# EAGLE library part ASE4204 (library SHC)
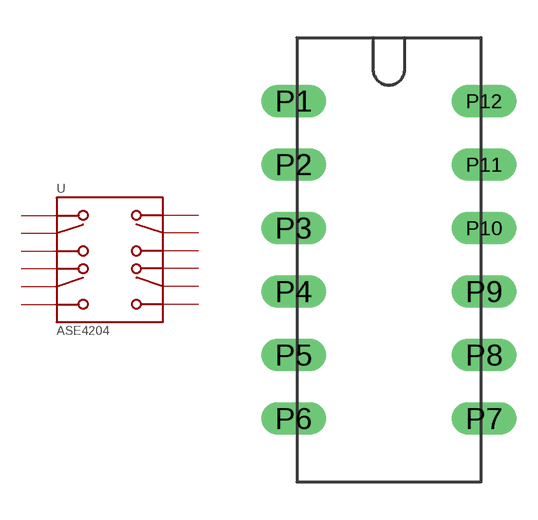
[diagram p41: symbol with the pads of DIP-12; footprint DIP-12]

Designator prefix -

## ASE4204  [DIP-12]
P1  P$1
P2  P$2
P3  P$3
P4  P$4
P5  P$5
P6  P$6
P7  P$7
P8  P$8
P9  P$9
P10  P$10
P11  P$11
P12  P$12

## Footprint DIP-12 (pad centres in mm)
drill 0.8 long: P1 -3.81,6.35; P2 -3.81,3.81; P3 -3.81,1.27; P4 -3.81,-1.27; P5 -3.81,-3.81; P6 -3.81,-6.35; P7 3.81,-6.35; P8 3.81,-3.81; P9 3.81,-1.27; P10 3.81,1.27; P11 3.81,3.81; P12 3.81,6.35